# Altium footprint library QFN-32_5x5x05P.PcbLib: 1 footprints
Each footprint in its own frame and in the unit in brackets; x right, y up, seen from the top. Pads: shape width x height; smd on the part's side, far side on the other; paste and mask are expansions set on the pad; w line width, h text height; cw(c..) or ccw(c..) is an arc to the next point about the centre after c.
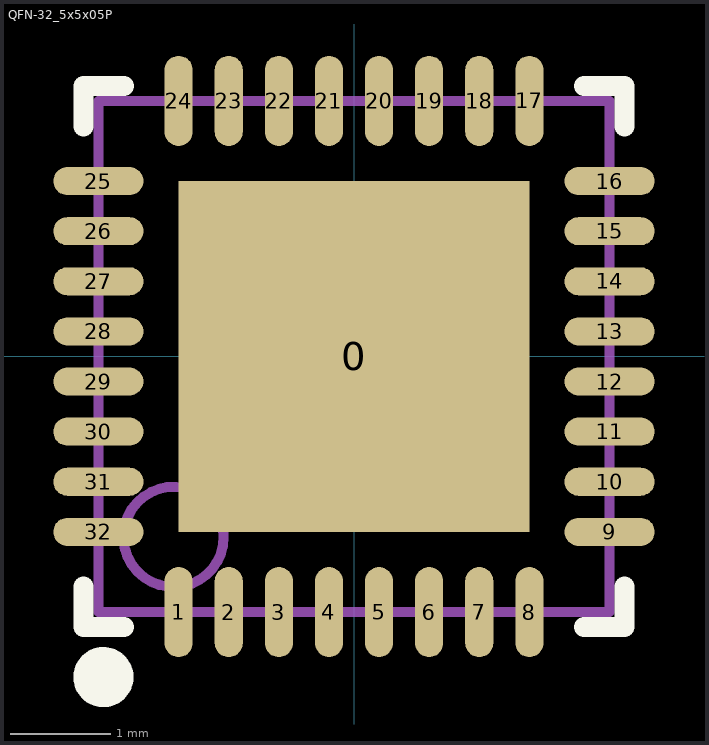
[diagram p0: the footprint, top view; thin cyan lines are the x and y axes]

## QFN-32_5x5x05P [mm]
pads (33):
  rect 3.5x3.5 smd paste-1.75 mask+0.051: 0(0,0)
  oval 0.28x0.9 smd mask+0.051: 1(-1.75,-2.55) 2(-1.25,-2.55) 3(-0.75,-2.55) 4(-0.25,-2.55) 5(0.25,-2.55) 6(0.75,-2.55) 7(1.25,-2.55) 8(1.75,-2.55) 17(1.75,2.55) 18(1.25,2.55) 19(0.75,2.55) 20(0.25,2.55) 21(-0.25,2.55) 22(-0.75,2.55) 23(-1.25,2.55) 24(-1.75,2.55)
  oval 0.9x0.28 smd mask+0.051: 9(2.55,-1.75) 10(2.55,-1.25) 11(2.55,-0.75) 12(2.55,-0.25) 13(2.55,0.25) 14(2.55,0.75) 15(2.55,1.25) 16(2.55,1.75) 25(-2.55,1.75) 26(-2.55,1.25) 27(-2.55,0.75) 28(-2.55,0.25) 29(-2.55,-0.25) 30(-2.55,-0.75) 31(-2.55,-1.25) 32(-2.55,-1.75)
Top Overlay:
  circle w0.3: c-2.5,-3.2 r0.15
  lines w0.2: -2.7,-2.295 -2.7,-2.7 -2.295,-2.7 ; -2.7,2.295 -2.7,2.7 -2.295,2.7 ; 2.295,-2.7 2.7,-2.7 2.7,-2.295 ; 2.295,2.7 2.7,2.7 2.7,2.295
Top Paste:
  rectangle: 0.55,0.55 1.05,1.05
  rectangle: -0.25,0.55 0.25,1.05
  rectangle: -1.05,0.55 -0.55,1.05
  rectangle: -1.05,-0.25 -0.55,0.25
  rectangle: -1.05,-1.05 -0.55,-0.55
  rectangle: 0.55,-1.05 1.05,-0.55
  rectangle: -0.25,-1.05 0.25,-0.55
  rectangle: 0.55,-0.25 1.05,0.25
  rectangle: -0.25,-0.25 0.25,0.25
Mechanical 13:
  circle w0.1: c-1.8,-1.8 r0.5
  lines w0.1: -2.55,-2.55 -2.55,2.55 2.55,2.55 2.55,-2.55 -2.55,-2.55